# Altium footprint library smdUtilities.PcbLib: 59 footprints (part 3 of 4)
Each footprint in its own frame and in the unit in brackets; x right, y up, seen from the top. Pads: shape width x height; smd on the part's side, far side on the other; paste and mask are expansions set on the pad; w line width, h text height; cw(c..) or ccw(c..) is an arc to the next point about the centre after c.
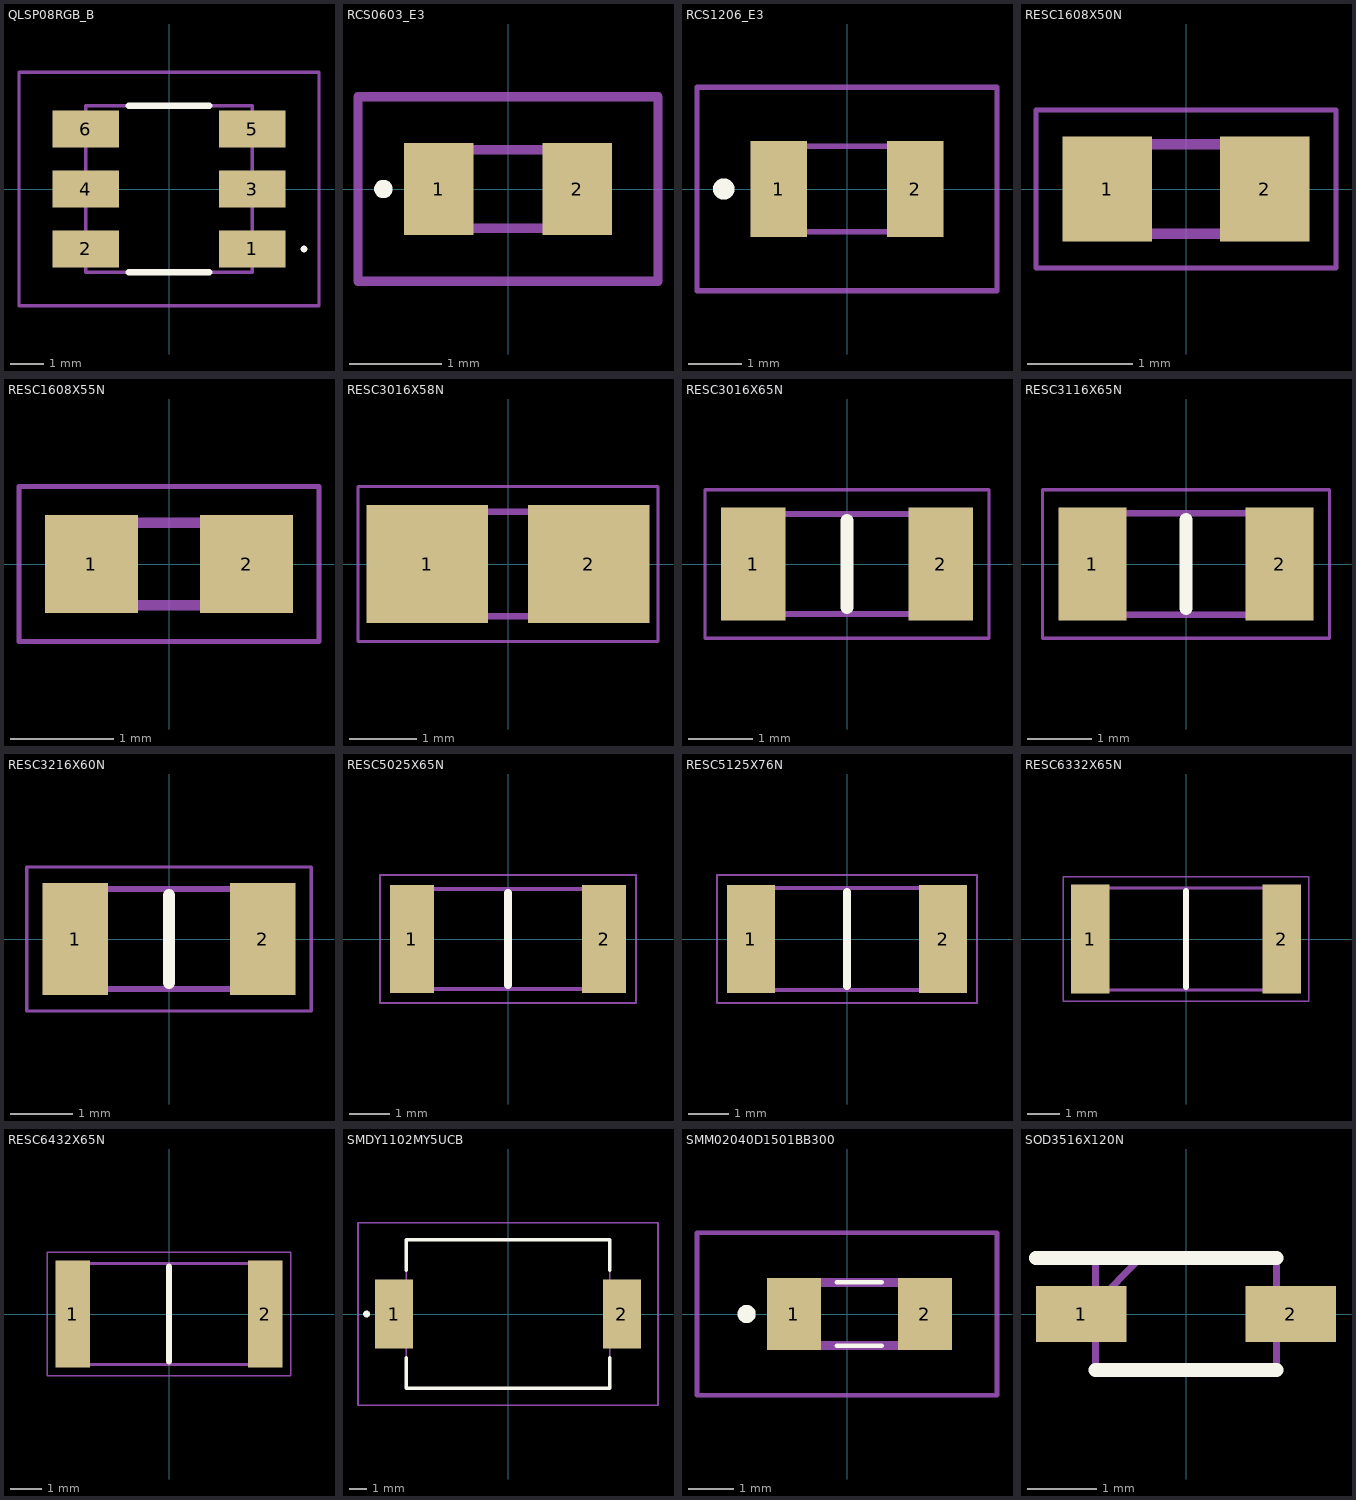
[diagram p2: the footprints below, top view; thin cyan lines are the x and y axes]

## QLSP08RGB_B [mm]
pads (6):
  rect 2x1.1 smd: 1(2.5,-1.8) 2(-2.5,-1.8) 3(2.5,0) 4(-2.5,0) 5(2.5,1.8) 6(-2.5,1.8)
Top Overlay:
  lines w0.1: 4,-1.8 cw(c4.05,-1.8) 4.1,-1.8 cw(c4.05,-1.8) 4,-1.8
  lines w0.2: -1.2,-2.5 1.2,-2.5 ; -1.2,2.5 1.2,2.5
Mechanical 13:
  lines w0.1: -2.5,-2.5 -2.5,2.5 2.5,2.5 2.5,-2.5 -2.5,-2.5
Mechanical 15:
  lines w0.1: -4.5,-3.5 -4.5,3.5 4.5,3.5 4.5,-3.5 -4.5,-3.5
3D body "QLSP08RGB_B.stp": height 1.9, standoff 0, extent -2.5,-2.5 2.5,2.5

## RCS0603_E3 [mm]
pads (2):
  rect 0.75x1 smd: 1(-0.75,0) 2(0.75,0)
Top Overlay:
  lines w0.1: -1.35,-0.05 cw(c-1.35,0) -1.35,0.05 cw(c-1.35,0) -1.35,-0.05
Mechanical 13:
  lines w0.1: -0.788,-0.425 0.788,-0.425 0.788,0.425 -0.788,0.425 -0.788,-0.425
Mechanical 15:
  lines w0.1: -1.625,-1 1.625,-1 1.625,1 -1.625,1 -1.625,-1
3D body "RCS06034K70FKEA.stp": height 0.45, standoff 0, extent -0.77,-0.43 0.78,0.42

## RCS1206_E3 [mm]
pads (2):
  rect 1.05x1.8 smd: 1(-1.275,0) 2(1.275,0)
Top Overlay:
  lines w0.2: -2.3,-0.1 cw(c-2.3,0) -2.3,0.1 cw(c-2.3,0) -2.3,-0.1
Mechanical 13:
  lines w0.1: -1.575,-0.8 1.575,-0.8 1.575,0.8 -1.575,0.8 -1.575,-0.8
Mechanical 15:
  lines w0.1: -2.8,-1.9 2.8,-1.9 2.8,1.9 -2.8,1.9 -2.8,-1.9
3D body "RCS120627K0FKEA.stp": height 0.55, standoff 0, extent -1.6,-0.8 1.6,0.8

## RESC1608X50N [mm]
pads (2):
  rect 0.85x1 smd: 1(-0.75,0) 2(0.75,0)
Mechanical 13:
  lines w0.1: -0.788,-0.425 0.788,-0.425 0.788,0.425 -0.788,0.425 -0.788,-0.425
Mechanical 15:
  lines w0.05: -1.425,-0.75 1.425,-0.75 1.425,0.75 -1.425,0.75 -1.425,-0.75
3D body "CRCW060310K0FKEAHP.stp": height 0.45, standoff 0, extent -0.77,-0.43 0.78,0.42

## RESC1608X55N [mm]
pads (2):
  rect 0.9x0.95 smd: 1(-0.75,0) 2(0.75,0)
Mechanical 13:
  lines w0.1: -0.775,-0.4 0.775,-0.4 0.775,0.4 -0.775,0.4 -0.775,-0.4
Mechanical 15:
  lines w0.05: -1.45,-0.75 1.45,-0.75 1.45,0.75 -1.45,0.75 -1.45,-0.75
3D body "RQ73C1J105KBTDF.stp": height 0.55, standoff 0, extent -0.775,-0.4 0.775,0.4

## RESC3016X58N [mm]
pads (2):
  rect 1.8x1.75 smd: 1(-1.2,0) 2(1.2,0)
Mechanical 13:
  lines w0.1: -1.525,-0.775 -1.525,0.775 1.525,0.775 1.525,-0.775 -1.525,-0.775
Mechanical 15:
  lines w0.05: -2.225,-1.15 -2.225,1.15 2.225,1.15 2.225,-1.15 -2.225,-1.15
3D body "3503G2B18K7FTDF.stp": height 0.58, standoff 0, extent -1.525,-0.775 1.525,0.775

## RESC3016X65N [mm]
pads (2):
  rect 1x1.75 smd: 1(-1.45,0) 2(1.45,0)
Top Overlay:
  lines w0.2: 0,-0.675 0,0.675
Mechanical 13:
  lines w0.1: -1.525,-0.775 -1.525,0.775 1.525,0.775 1.525,-0.775 -1.525,-0.775
Mechanical 15:
  lines w0.05: -2.2,-1.15 -2.2,1.15 2.2,1.15 2.2,-1.15 -2.2,-1.15
3D body "RQ73C2B76K8BTDF.stp": height 0.65, standoff 0, extent -1.525,-0.775 1.525,0.775

## RESC3116X65N [mm]
pads (2):
  rect 1.05x1.75 smd: 1(-1.45,0) 2(1.45,0)
Top Overlay:
  lines w0.2: 0,-0.688 0,0.688
Mechanical 13:
  lines w0.1: -1.55,-0.788 -1.55,0.788 1.55,0.788 1.55,-0.788 -1.55,-0.788
Mechanical 15:
  lines w0.05: -2.225,-1.15 -2.225,1.15 2.225,1.15 2.225,-1.15 -2.225,-1.15
3D body "CRGCQ1206F4K7.stp": height 0.65, standoff 0, extent -1.55,-0.787 1.55,0.787

## RESC3216X60N [mm]
pads (2):
  rect 1.05x1.8 smd: 1(-1.5,0) 2(1.5,0)
Top Overlay:
  lines w0.2: 0,-0.7 0,0.7
Mechanical 13:
  lines w0.1: -1.575,-0.8 -1.575,0.8 1.575,0.8 1.575,-0.8 -1.575,-0.8
Mechanical 15:
  lines w0.05: -2.275,-1.15 -2.275,1.15 2.275,1.15 2.275,-1.15 -2.275,-1.15
3D body "CRCW1206226KFKTC.stp": height 0.55, standoff 0, extent -1.42,-0.74 1.78,0.86

## RESC5025X65N [mm]
pads (2):
  rect 1.1x2.7 smd: 1(-2.4,0) 2(2.4,0)
Top Overlay:
  lines w0.2: 0,-1.15 0,1.15
Mechanical 13:
  lines w0.1: -2.5,-1.25 -2.5,1.25 2.5,1.25 2.5,-1.25 -2.5,-1.25
Mechanical 15:
  lines w0.05: -3.2,-1.6 -3.2,1.6 3.2,1.6 3.2,-1.6 -3.2,-1.6
3D body "CRGP2010F4K7.stp": height 0.65, standoff 0, extent -2.5,-1.25 2.5,1.25

## RESC5125X76N [mm]
pads (2):
  rect 1.2x2.7 smd: 1(-2.4,0) 2(2.4,0)
Top Overlay:
  lines w0.2: 0,-1.17 0,1.17
Mechanical 13:
  lines w0.1: -2.54,-1.27 2.54,-1.27 2.54,1.27 -2.54,1.27 -2.54,-1.27
Mechanical 15:
  lines w0.05: -3.25,-1.6 3.25,-1.6 3.25,1.6 -3.25,1.6 -3.25,-1.6
3D body "HVCB2010BDE10M0.stp": height 0.76, standoff 0, extent -2.54,-1.27 2.54,1.27

## RESC6332X65N [mm]
pads (2):
  rect 1.2x3.4 smd: 1(-3,0) 2(3,0)
Top Overlay:
  lines w0.2: 0,-1.5 0,1.5
Mechanical 13:
  lines w0.1: -3.15,-1.6 3.15,-1.6 3.15,1.6 -3.15,1.6 -3.15,-1.6
Mechanical 15:
  lines w0.05: -3.85,-1.95 3.85,-1.95 3.85,1.95 -3.85,1.95 -3.85,-1.95
3D body "RVCU2512FT1M00.stp": height 0.65, standoff 0, extent -3.15,-1.6 3.15,1.6

## RESC6432X65N [mm]
pads (2):
  rect 1.1x3.4 smd: 1(-3.05,0) 2(3.05,0)
Top Overlay:
  lines w0.2: 0,-1.5 0,1.5
Mechanical 13:
  lines w0.1: -3.175,-1.6 -3.175,1.6 3.175,1.6 3.175,-1.6 -3.175,-1.6
Mechanical 15:
  lines w0.05: -3.85,-1.95 -3.85,1.95 3.85,1.95 3.85,-1.95 -3.85,-1.95
3D body "CRGP2512F27R.stp": height 0.65, standoff 0, extent -3.175,-1.6 3.175,1.6

## SMDY1102MY5UCB [mm]
pads (2):
  rect 2.2x4 smd: 1(-6.6,0) 2(6.6,0)
Top Overlay:
  lines w0.2: -5.9,-2.54 -5.9,-4.3 5.9,-4.3 5.9,-2.54 ; -5.9,2.54 -5.9,4.3 5.9,4.3 5.9,2.54 ; -8.2,-0.1 cw(c-8.2,0) -8.2,0.1 cw(c-8.2,0) -8.2,-0.1
Mechanical 13:
  lines w0.1: -5.9,-4.3 5.9,-4.3 5.9,4.3 -5.9,4.3 -5.9,-4.3
Mechanical 15:
  lines w0.1: -8.7,-5.3 8.7,-5.3 8.7,5.3 -8.7,5.3 -8.7,-5.3
3D body "SMDY1152MY5UCR.stp": height 4.12, standoff 0.02, extent -7.4,-4.3 7.4,4.3

## SMM02040D1501BB300 [mm]
pads (2):
  rect 1.2x1.6 smd: 1(-1.175,0) 2(1.725,0)
Top Overlay:
  lines w0.1: -0.225,-0.7 0.775,-0.7 ; -0.225,0.7 0.775,0.7
  lines w0.2: -2.225,-0.1 cw(c-2.225,0) -2.225,0.1 cw(c-2.225,0) -2.225,-0.1
Mechanical 13:
  lines w0.2: -1.525,-0.7 2.075,-0.7 2.075,0.7 -1.525,0.7 -1.525,-0.7
Mechanical 15:
  lines w0.1: -3.325,-1.8 3.325,-1.8 3.325,1.8 -3.325,1.8 -3.325,-1.8
3D body "SMM02040C8202FB000.stp": height 1.4, standoff 0, extent -1.56,-0.7 2.04,0.7

## SOD3516X120N [mm]
pads (2):
  rect 1.3x0.8 smd: 1(-1.5,0) 2(1.5,0)
Top Overlay:
  lines w0.2: -2.15,0.8 1.3,0.8 ; -1.3,-0.8 1.3,-0.8
Mechanical 15:
  lines w0.1: -1.3,0.15 -0.65,0.8 ; -1.3,-0.8 1.3,-0.8 1.3,0.8 -1.3,0.8 -1.3,-0.8